# Altium schematic symbol library 15uF-Cap.SchLib: 2 symbols
Pins are listed as number, name and electrical type; pins without a type are passive.

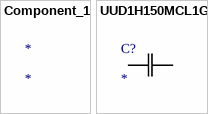
[diagram p0: symbols Component_1 to UUD1H150MCL1GS]

## Component_1
designator *

## UUD1H150MCL1GS
designator C?
Imported; Manufacturer_Part_Number: UUD1H150MCL1GS; Vendor: Nichicon; Built_By: EMA_UL_Team; Type: DEV; C: Copyright (C) 2015 Accelerated Designs. All rights reserved; RefDes: RefDes; Value: Value
footprint U2-I
pins: 1, 2